# Altium schematic symbol library CLAP.SCHLIB: 280 symbols
Pins are listed as number, name and electrical type; pins without a type are passive.

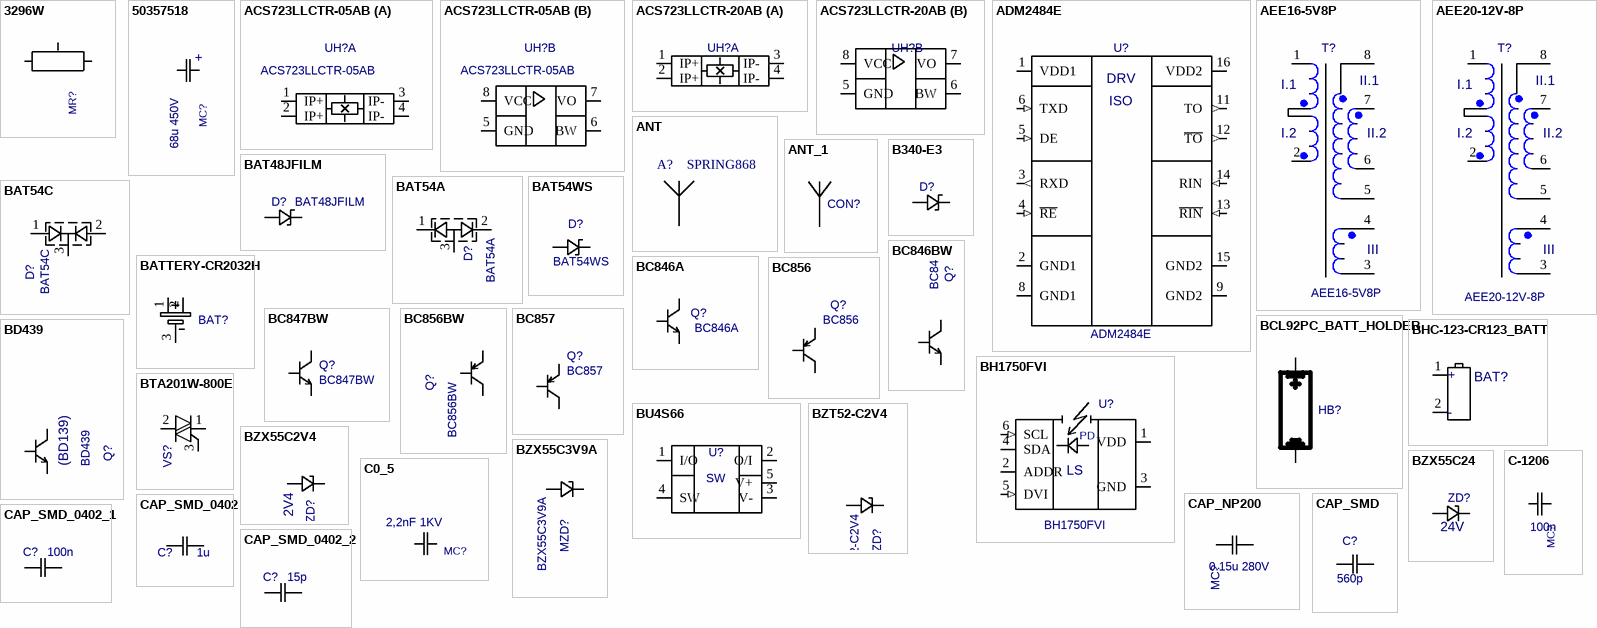
[diagram p0: symbols 3296W to CAP_SMD_0402_2]

## 3296W
designator MR?  (value not drawn)
Value: 2 kOm
footprint 3296W
pins: 1, 2, 3

## 50357518
designator MC?  value 68u 450V  (hidden comment: 50357518)
footprint 50357518
pins: 1, 2
text: +

## ACS723LLCTR-05AB
designator UH?
Value: *
footprint SO8
part A pins: 1 IP+, 2 IP+, 3 IP-, 4 IP-
part B pins: 5 GND, 6 BW, 7 VO, 8 VCC

## ACS723LLCTR-20AB
designator UH?  (value not drawn)
Value: *
footprint SO8
part A pins: 1 IP+, 2 IP+, 3 IP-, 4 IP-
part B pins: 5 GND, 6 BW, 7 VO, 8 VCC

## ADM2484E
designator U?
Value: *
footprint SOIC-W-16
pins: 1 VDD1 (power), 2 GND1 (power), 3 RXD (out), 4 ~{RE} (in), 5 DE (in), 6 TXD (in), 7 hidden, 8 GND1 (power), 9 GND2 (power), 10 hidden, 11 TO (out), 12 ~{TO} (out), 13 ~{RIN} (in), 14 RIN (in), 15 GND2 (power), 16 VDD2 (power)
text: DRV; ISO

## AEE16-5V8P
designator T?
footprint TRANS_HOR_20
pins: 1, 2, 3, 4, 5, 6, 7, 8
text: I.1; II.1; I.2; II.2; III

## AEE20-12V-8P
designator T?
footprint TRANS_HOR_4
pins: 1, 2, 3, 4, 5, 6, 7, 8
text: I.1; II.1; I.2; II.2; III

## ANT
designator A?, comment SPRING868
Вид: Антена; Позиційне позначення на платі: A?; Примітки: Пряма; Корпус: Spring868; Номінал: Spring868; Тип: Spring868
footprint ANT_H868_V (helical 868 MHz antenna)
pins: 1

## ANT_1
designator CON?, comment ANT  (value not drawn)
Value: *
footprint ANT
pins: 1, 2 hidden, 3 hidden, 4 hidden, 5 hidden

## B340-E3
designator D?  (value not drawn)
Value: *
footprint DO-214AC
pins: 1, 2

## BAT48JFILM
designator D?
Value: *
footprint SOD323
pins: 1, 2

## BAT54A
designator D?
Value: *
footprint SOT23
pins: 1 A, 2 K, 3 CMN

## BAT54C
designator D?
2 Shottky Diodes. CMN Cathode; Value: *
footprint SOT23
pins: 1 A, 2 K, 3 CMN

## BAT54WS
designator D?
Value: *
footprint SOD323
pins: 1, 2

## BATTERY-CR2032H
designator BAT?  (value not drawn)
Value: *
footprint CR2032H_BATTERY
pins: 1 +, 2 +, 3 -

## BC846A
designator Q?
Value: *
footprint SOT23
pins: 1 B, 2 E, 3 C

## BC846BW
designator Q?
Value: *
footprint SOT323
pins: 1 B, 2 E, 3 C

## BC847BW
designator Q?
Value: *
footprint SOT23
pins: 1 B, 2 E, 3 C

## BC856
designator Q?
Value: *
footprint SOT23
pins: 1 B, 2 E, 3 C

## BC856BW
designator Q?
Value: *
footprint SOT23
pins: 1 B, 2 E, 3 C

## BC857
designator Q?
Value: *
footprint SOT23
pins: 1 B, 2 E, 3 C

## BCL92PC_BATT_HOLDER
designator HB?  (value not drawn)
Value: *
footprint BAT_BCL92PC
footprint BAT_BCL92PC_U_3D
pins: 1, 2 hidden, 3 hidden, 4

## BD439
designator Q?  value (BD139)
footprint TO225 VH
pins: 1 E, 2 K, 3 B

## BH1750FVI
designator U?
Value: *
footprint BH1750FVI
pins: 1 VDD (power), 2 ADDR, 3 GND (power), 4 SDA (hiz), 5 DVI (in), 6 SCL (in), 7 hidden
text: PD; LS

## BHC-123-CR123_BATT
designator BAT?  (value not drawn)
Value: *
footprint BATTERY_HOLDER_BHC-CR123
pins: 1, 2, 3 hidden, 4 hidden, 5 hidden
text: +; -

## BTA201W-800E
designator VS?  (value not drawn)
Value: *
footprint SOT223
pins: 1, 2, 3, 4 hidden

## BU4S66
designator U?  (value not drawn)
Value: *
footprint SMP5
pins: 1 I/O, 2 O/I, 3 V-, 4 SW, 5 V+

## BZT52-C2V4
designator ZD?
Value: *
footprint SOD323
pins: 1, 2

## BZX55C2V4
designator ZD?  value 2V4  (hidden comment: BZX55C2V4)
Zener Diode 2.4V
footprint DO-35
pins: 1, 2

## BZX55C3V9A
designator MZD?
Value: 3V9
footprint SOD80
pins: A, K

## BZX55C24
designator ZD?  value 24V  (hidden comment: BZX55C24)
Zener Diode 24V
footprint DO-35
pins: 1, 2

## C0_5
designator MC?  value 2,2nF 1KV  (hidden comment: C0_5)
footprint C0_5
pins: 1, 2

## C-1206
designator MC?  value 100n  (hidden comment: C-1206)
footprint C-1206
pins: 1, 2

## CAP_NP200
designator MC?  value 0.15u 280V  (hidden comment: CAP_NP200)
footprint CAP200
pins: 1, 2

## CAP_SMD
designator C?  value 560p  (hidden comment: CAP_SMD)
footprint C0805
pins: 1 A, 2 B

## CAP_SMD_0402
designator C?  value 1u  (hidden comment: CAP_SMD_0402)
footprint C0402
footprint C-0402 (Chip Capacitor, 2-Leads, Body 1,00x0,50mm, IPC Medium Density)
pins: 1 A, 2 B

## CAP_SMD_0402_1
designator C?, comment value 100n  (hidden comment: CAP_SMD_0402)
footprint C0402
footprint C-0402 (Chip Capacitor, 2-Leads, Body 1,00x0,50mm, IPC Medium Density)
pins: 1 A, 2 B

## CAP_SMD_0402_2
designator C?, comment value 15p  (hidden comment: CAP_SMD_0402)
footprint C0402
footprint C-0402 (Chip Capacitor, 2-Leads, Body 1,00x0,50mm, IPC Medium Density)
pins: 1 A, 2 B

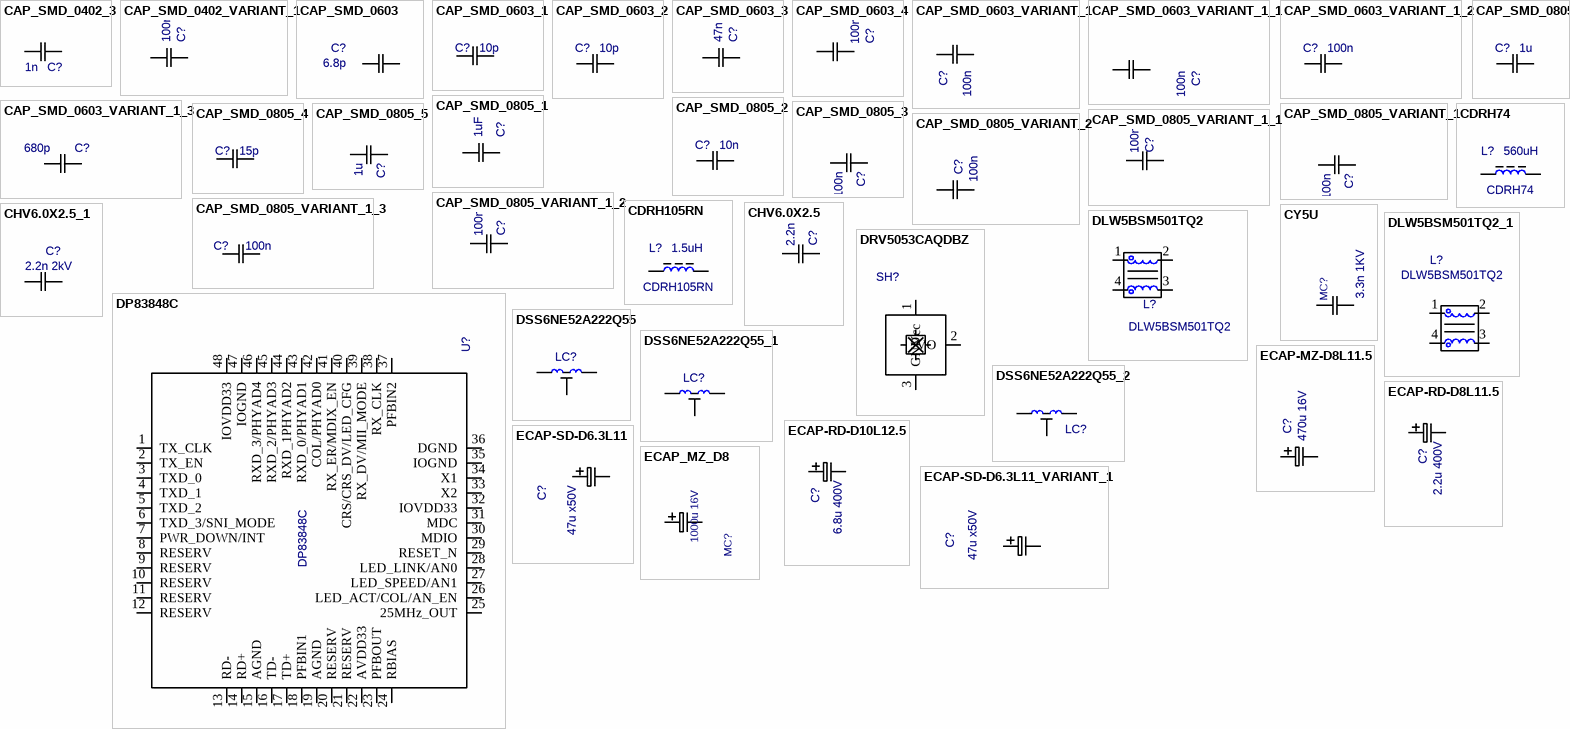
[diagram p1: symbols CAP_SMD_0402_3 to ECAP_MZ_D8]

## CAP_SMD_0402_3
designator C?, comment value 1n  (hidden comment: CAP_SMD_0402)
footprint C0402
footprint C-0402 (Chip Capacitor, 2-Leads, Body 1,00x0,50mm, IPC Medium Density)
pins: 1 A, 2 B

## CAP_SMD_0402_VARIANT_1
designator C?, comment value 100n  (hidden comment: CAP_SMD_0402)
CAP_SMD_0402_VARIANT_1
footprint C0402
footprint C-0402 (Chip Capacitor, 2-Leads, Body 1,00x0,50mm, IPC Medium Density)
pins: 1 A, 2 B

## CAP_SMD_0603
designator C?  value 6.8p  (hidden comment: CAP_SMD_0603)
footprint C0603
pins: 1 A, 2 B

## CAP_SMD_0603_1
designator C?, comment value 10p  (hidden comment: CAP_SMD_0603)
footprint C0603
pins: 1 A, 2 B

## CAP_SMD_0603_2
designator C?, comment value 10p  (hidden comment: CAP_SMD_0603)
footprint C0603
pins: 1 A, 2 B

## CAP_SMD_0603_3
designator C?, comment value 47n  (hidden comment: CAP_SMD_0603)
footprint C0603
pins: 1 A, 2 B

## CAP_SMD_0603_4
designator C?, comment value 100n  (hidden comment: CAP_SMD_0603)
footprint C0603
pins: 1 A, 2 B

## CAP_SMD_0603_VARIANT_1
designator C?, comment value 100n  (hidden comment: CAP_SMD_0603)
CAP_SMD_0603_VARIANT_1
footprint C0603
pins: 1 A, 2 B

## CAP_SMD_0603_VARIANT_1_1
designator C?, comment value 100n  (hidden comment: CAP_SMD_0603)
CAP_SMD_0603_VARIANT_1
footprint C0603
pins: 1 A, 2 B

## CAP_SMD_0603_VARIANT_1_2
designator C?, comment value 100n  (hidden comment: CAP_SMD_0603)
CAP_SMD_0603_VARIANT_1
footprint C0603
pins: 1 A, 2 B

## CAP_SMD_0603_VARIANT_1_3
designator C?, comment value 680p  (hidden comment: CAP_SMD_0603)
CAP_SMD_0603_VARIANT_1
footprint C0603
pins: 1 A, 2 B

## CAP_SMD_0805
designator C?  value 1u  (hidden comment: CAP_SMD_0805)
footprint C0805
pins: 1 A, 2 B

## CAP_SMD_0805_1
designator C?, comment value 1uF  (hidden comment: CAP_SMD_0805)
footprint C0805
pins: 1 A, 2 B

## CAP_SMD_0805_2
designator C?, comment value 10n  (hidden comment: CAP_SMD_0805)
footprint C0805
pins: 1 A, 2 B

## CAP_SMD_0805_3
designator C?, comment value 100n  (hidden comment: CAP_SMD_0805)
footprint C0805
pins: 1 A, 2 B

## CAP_SMD_0805_4
designator C?, comment value 15p  (hidden comment: CAP_SMD_0805)
footprint C0805
pins: 1 A, 2 B

## CAP_SMD_0805_5
designator C?, comment value 1u  (hidden comment: CAP_SMD_0805)
footprint C0805
pins: 1 A, 2 B

## CAP_SMD_0805_VARIANT_1
designator C?, comment value 100n  (hidden comment: CAP_SMD_0805)
CAP_SMD_0805_VARIANT_1
footprint C0805
pins: 1 A, 2 B

## CAP_SMD_0805_VARIANT_1_1
designator C?, comment value 100n  (hidden comment: CAP_SMD_0805)
CAP_SMD_0805_VARIANT_1
footprint C0805
pins: 1 A, 2 B

## CAP_SMD_0805_VARIANT_1_2
designator C?, comment value 100n  (hidden comment: CAP_SMD_0805)
CAP_SMD_0805_VARIANT_1
footprint C0805
pins: 1 A, 2 B

## CAP_SMD_0805_VARIANT_1_3
designator C?, comment value 100n  (hidden comment: CAP_SMD_0805)
CAP_SMD_0805_VARIANT_1
footprint C0805
pins: 1 A, 2 B

## CAP_SMD_0805_VARIANT_2
designator C?, comment value 100n  (hidden comment: CAP_SMD_0805)
CAP_SMD_0805_VARIANT_2
footprint C0805
pins: 1 A, 2 B

## CDRH74
designator L?  value 560uH
footprint CDRH74_INDUCTOR
pins: 1, 2

## CDRH105RN
designator L?  value 1.5uH
SMD Power Inductor. Sumida
footprint CDRH105R_INDUCTOR
pins: 1, 2

## CHV6.0X2.5
designator C?  value 2.2n 2kV  (hidden comment: CHV6.0X2.5)
footprint CDIP2D20L210W100
pins: 1, 2

## CHV6.0X2.5_1
designator C?, comment value 2.2n 2kV  (hidden comment: CHV6.0X2.5)
footprint CDIP2D20L210W100
pins: 1, 2

## CY5U
designator MC?  value 3.3n 1KV  (hidden comment: CY5U)
footprint CY5U
pins: 1, 2

## DLW5BSM501TQ2
designator L?
Value: *
footprint DLW5BS_CHOKE_COIL
pins: 1, 2, 3, 4

## DLW5BSM501TQ2_1
designator L?, comment DLW5BSM501TQ2
Value: *
footprint DLW5BS_CHOKE_COIL
pins: 1, 2, 3, 4

## DP83848C
designator U?
Value: *
footprint LQFP48(7_7)
pins: 1 TX_CLK, 2 TX_EN, 3 TXD_0, 4 TXD_1, 5 TXD_2, 6 TXD_3/SNI_MODE, 7 PWR_DOWN/INT, 8 RESERV, 9 RESERV, 10 RESERV, 11 RESERV, 12 RESERV, 13 RD-, 14 RD+, 15 AGND, 16 TD-, 17 TD+, 18 PFBIN1, 19 AGND, 20 RESERV, 21 RESERV, 22 AVDD33, 23 PFBOUT, 24 RBIAS, 25 25MHz_OUT, 26 LED_ACT/COL/AN_EN, 27 LED_SPEED/AN1, 28 LED_LINK/AN0, 29 RESET_N, 30 MDIO, 31 MDC, 32 IOVDD33, 33 X2, 34 X1, 35 IOGND, 36 DGND, 37 PFBIN2, 38 RX_CLK, 39 RX_DV/MII_MODE, 40 CRS/CRS_DV/LED_CFG, 41 RX_ER/MDIX_EN, 42 COL/PHYAD0, 43 RXD_0/PHYAD1, 44 RXD_1PHYAD2, 45 RXD_2/PHYAD3, 46 RXD_3/PHYAD4, 47 IOGND, 48 IOVDD33

## DRV5053CAQDBZ
designator SH?  (value not drawn)
Value: *
footprint SOT23-DBZ
pins: 1 Vcc, 2 VO, 3 GND

## DSS6NE52A222Q55
designator LC?  (value not drawn)
Value: *
footprint EMIFIL_DSS6
pins: 1, 2, 3

## DSS6NE52A222Q55_1
designator LC?, comment DSS6NE52A222Q55  (value not drawn)
EMI Filter; Value: *
footprint EMIFIL_DSS6
pins: 1, 2, 3

## DSS6NE52A222Q55_2
designator LC?, comment DSS6NE52A222Q55  (value not drawn)
Value: *
footprint EMIFIL_DSS6
pins: 1, 2, 3

## ECAP-MZ-D8L11.5
designator C?  value 470u 16V  (hidden comment: ECAP-MZ-D8L11.5)
Jamicon MZ-Series Capasitor
footprint ECAP-MZ-D8L11.5
pins: 1, 2

## ECAP-RD-D8L11.5
designator C?  value 2.2u 400V  (hidden comment: ECAP-RD-D8L11.5)
footprint ECAP-SD-D8L11.5
pins: 1, 2

## ECAP-RD-D10L12.5
designator C?  value 6.8u 400V  (hidden comment: ECAP-RD-D10L12.5)
footprint ECAP-SD-D10L12.5
pins: 1, 2

## ECAP-SD-D6.3L11
designator C?  value 47u x50V  (hidden comment: ECAP-SD-D6.3L11)
footprint ECAP-SD-D6.3L11
pins: 1, 2

## ECAP-SD-D6.3L11_VARIANT_1
designator C?, comment value 47u x50V  (hidden comment: ECAP-SD-D6.3L11)
ECAP-SD-D6.3L11_VARIANT_1
footprint ECAP-SD-D6.3L11
pins: 1, 2

## ECAP_MZ_D8
designator MC?  value 1000u 16V  (hidden comment: ECAP_MZ_D8)
footprint C_MZ-DIP8X20
pins: 1, 2

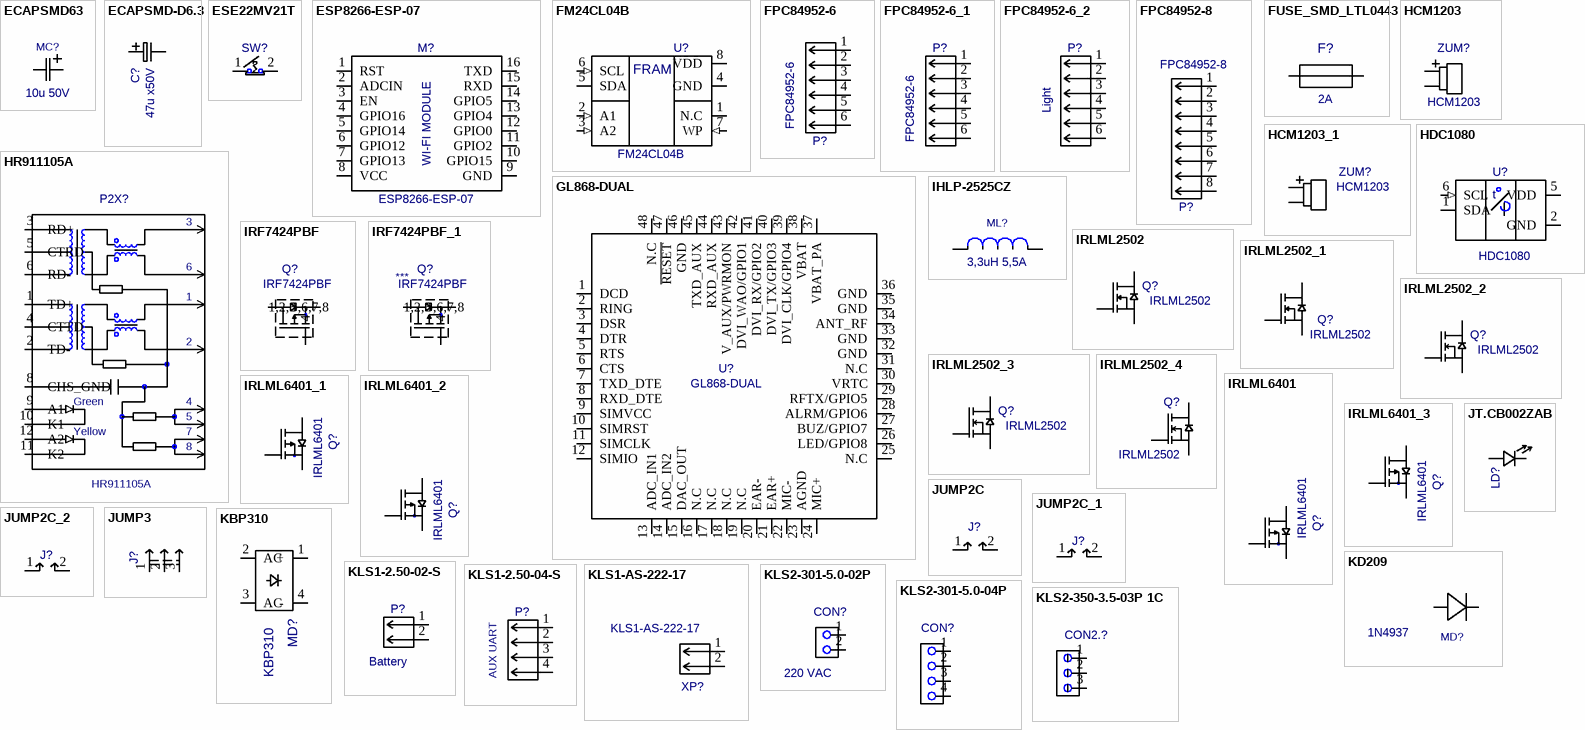
[diagram p2: symbols ECAPSMD63 to KLS2-350-3.5-03P 1C]

## ECAPSMD63
designator MC?  value 10u 50V  (hidden comment: ECAPSMD63)
footprint ECAPSMD63
pins: 1, 2

## ECAPSMD-D6.3
designator C?  value 47u x50V  (hidden comment: ECAPSMD-D6.3)
footprint SMDCAP-D6.3
pins: 1, 2

## ESE22MV21T
designator SW?  (value not drawn)
{Description}; Value: *
footprint ESE22MV21T
pins: 1, 2

## ESP8266-ESP-07
designator M?
WI-FI MODULE; Value: *
footprint MOD_ESP8166_ESP-07
pins: 1 RST, 2 ADCIN, 3 EN, 4 GPIO16, 5 GPIO14, 6 GPIO12, 7 GPIO13, 8 VCC, 9 GND, 10 GPIO15, 11 GPIO2, 12 GPIO0, 13 GPIO4, 14 GPIO5, 15 RXD, 16 TXD

## FM24CL04B
designator U?
Value: *
footprint SOIC8-150
pins: 1 N.C, 2 A1 (in), 3 A2 (in), 4 GND (power), 5 SDA (io), 6 SCL (in), 7 WP (in), 8 VDD (power)
text: FRAM

## FPC84952-6
designator P?
Value: *
footprint FPC84952-6_SMT_BOTT
pins: 1, 2, 3, 4, 5, 6, 7 hidden, 8 hidden

## FPC84952-6_1
designator P?, comment FPC84952-6
Value: *
footprint FPC84952-6_SMT_BOTT
pins: 1, 2, 3, 4, 5, 6, 7 hidden, 8 hidden

## FPC84952-6_2
designator P?, comment value Light  (hidden comment: FPC84952-6)
footprint FPC84952-6_SMT_BOTT
pins: 1, 2, 3, 4, 5, 6, 7 hidden, 8 hidden

## FPC84952-8
designator P?
Value: *
footprint FPC_CON_SMT_8
pins: 1, 2, 3, 4, 5, 6, 7, 8, 9 hidden, 10 hidden

## FUSE_SMD_LTL0443
designator F?  value 2A  (hidden comment: FUSE_SMD_LTL0443)
footprint FUSE_LTL0443
pins: 1, 2

## GL868-DUAL
designator U?
Value: *
footprint PQFP48
pins: 1 DCD, 2 RING, 3 DSR, 4 DTR, 5 RTS, 6 CTS, 7 TXD_DTE, 8 RXD_DTE, 9 SIMVCC, 10 SIMRST, 11 SIMCLK, 12 SIMIO, 13 ADC_IN1, 14 ADC_IN2, 15 DAC_OUT, 16 N.C, 17 N.C, 18 N.C, 19 N.C, 20 EAR-, 21 EAR+, 22 MIC-, 23 AGND, 24 MIC+, 25 N.C, 26 LED/GPIO8, 27 BUZ/GPIO7, 28 ALRM/GPIO6, 29 RFTX/GPIO5, 30 VRTC, 31 N.C, 32 GND, 33 GND, 34 ANT_RF, 35 GND, 36 GND, 37 VBAT_PA, 38 VBAT, 39 DVI_CLK/GPIO4, 40 DVI_TX/GPIO3, 41 DVI_RX/GPIO2, 42 DVI_WAO/GPIO1, 43 V_AUX/PWRMON, 44 RXD_AUX, 45 TXD_AUX, 46 GND, 47 ~{RESET}, 48 N.C

## HCM1203
designator ZUM?
Value: *
footprint BUZZER_3D
pins: 1, 2

## HCM1203_1
designator ZUM?, comment HCM1203
Value: *
footprint HCM1206X_ZUMM
pins: 1, 2

## HDC1080
designator U?
Sensor humidity, temperature; Value: *
footprint WSON_6
pins: 1 SDA (hiz), 2 GND (power), 3 N.C hidden, 4 N.C hidden, 5 VDD (power), 6 SCL (in), 7 hidden
text: t

## HR911105A
designator P2X?
Value: *
footprint HR911105A
pins: 1 TD+, 2 TD-, 3 RD+, 4 CTTD, 5 CTRD, 6 RD-, 7 hidden, 8 CHS_GND, 9 A1, 10 K1, 11 K2, 12 A2, 13 hidden, 14 hidden, 15 hidden, 16 hidden
text: Green; Yellow

## IHLP-2525CZ
designator ML?  value 3,3uH 5,5A  (hidden comment: IHLP-2525CZ)
footprint IHLP-2525CZ
pins: 1, 2

## IRF7424PBF
designator Q?
Value: *
footprint SO8
pins: 1 1,2,3, 2 hidden, 3 hidden, 4, 5 5,6,7,8, 6 hidden, 7 hidden, 8 hidden

## IRF7424PBF_1
designator Q?, comment IRF7424PBF  value ***
footprint SO8
pins: 1 1,2,3, 2 hidden, 3 hidden, 4, 5 5,6,7,8, 6 hidden, 7 hidden, 8 hidden

## IRLML2502
designator Q?
Value: *
footprint MICRO3
footprint SOT23 (SOT23, 3-Leads, Body 2,90x2,45mm, Pitch 0,95mm, IPC Medium Density)
pins: 1 G, 2 S, 3 D

## IRLML2502_1
designator Q?, comment IRLML2502
Value: *
footprint MICRO3
pins: 1 G, 2 S, 3 D

## IRLML2502_2
designator Q?, comment IRLML2502
Value: *
footprint MICRO3
pins: 1 G, 2 S, 3 D

## IRLML2502_3
designator Q?, comment IRLML2502
Value: *
footprint MICRO3
pins: 1 G, 2 S, 3 D

## IRLML2502_4
designator Q?, comment IRLML2502
Value: *
footprint MICRO3
pins: 1 G, 2 S, 3 D

## IRLML6401
designator Q?
Value: *
footprint MICRO3
footprint SOT23 (SOT23, 3-Leads, Body 2,90x2,45mm, Pitch 0,95mm, IPC Medium Density)
pins: 1 G, 2 S, 3 D

## IRLML6401_1
designator Q?, comment IRLML6401
Value: *
footprint MICRO3
pins: 1 G, 2 S, 3 D

## IRLML6401_2
designator Q?, comment IRLML6401
Value: *
footprint MICRO3
pins: 1 G, 2 S, 3 D

## IRLML6401_3
designator Q?, comment IRLML6401
Value: *
footprint MICRO3
pins: 1 G, 2 S, 3 D

## JT.CB002ZAB
designator LD?  (value not drawn)
Value: *
footprint LED_SMD_1210
pins: A, K

## JUMP2C
designator J?  (value not drawn)
Value: *
footprint JMP2
pins: 1, 2

## JUMP2C_1
designator J?, comment JUMP2C  (value not drawn)
Value: *
footprint JMP2
pins: 1, 2

## JUMP2C_2
designator J?, comment JUMP2C  (value not drawn)
Value: *
footprint JMP2
pins: 1, 2

## JUMP3
designator J?  (value not drawn)
footprint JMP3
pins: 1, 2, 3

## KBP310
designator MD?
Value: *
footprint KBP
pins: 1 +, 2 AC, 3 AC, 4 -

## KD209
designator MD?  value 1N4937  (hidden comment: KD209)
footprint KD209
pins: 1 A, 2 C

## KLS1-2.50-02-S
designator P?  value Battery  (hidden comment: KLS1-2.50-02-S)
footprint KLS1-2.50-02-S
pins: 1, 2

## KLS1-2.50-04-S
designator P?  value AUX UART  (hidden comment: KLS1-2.50-04-S)
footprint KLS1-2.50-04-S
pins: 1, 2, 3, 4

## KLS1-AS-222-17
designator XP?
Value: *
footprint KLS1-AS222-17
pins: 1, 2, 3 hidden, 4 hidden

## KLS2-301-5.0-02P
designator CON?  value 220 VAC  (hidden comment: KLS2-301-5.0-02P)
footprint KLS2-301-5.0-02P
pins: 1, 2

## KLS2-301-5.0-04P
designator CON?  (value not drawn)
Value: *
footprint KLS2-301-5.0-04P
pins: 1, 2, 3, 4

## KLS2-350-3.5-03P 1C
designator CON2.?  (value not drawn)
Value: *
footprint KLS2-350-3.5-03PXS
pins: 1, 2, 3

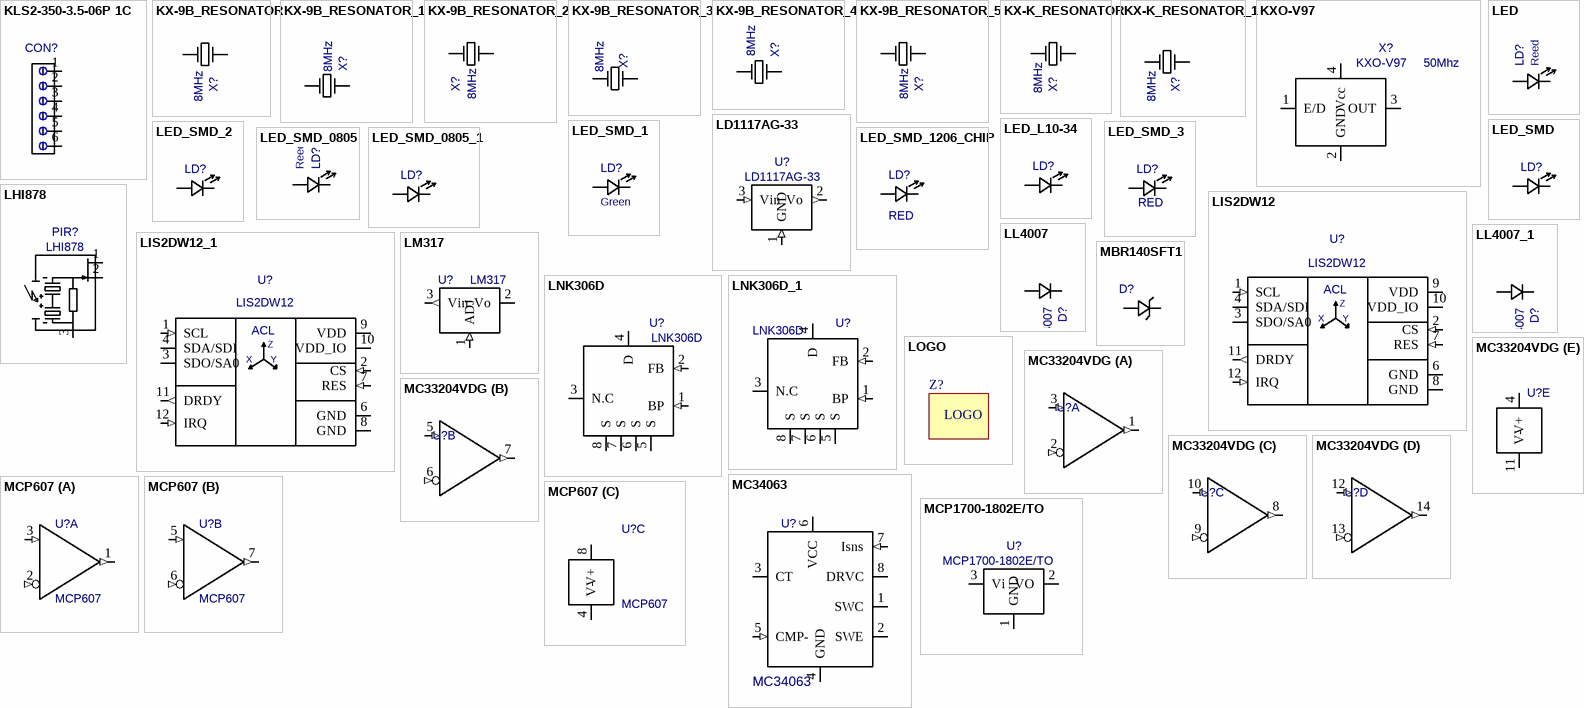
[diagram p3: symbols KLS2-350-3.5-06P 1C to MCP1700-1802E/TO]

## KLS2-350-3.5-06P 1C
designator CON?  (value not drawn)
Value: *
footprint KLS2-350-3.5-06PXS
pins: 1, 2, 3, 4, 5, 6

## KX-9B_RESONATOR
designator X?  value 8MHz  (hidden comment: KX-9B_RESONATOR)
Crystal
footprint KX-9B_CRYSTAL
footprint KX-9B (Filter, Chip; 5.00 mm L X 3.20 mm W X 1.10 mm H body)
pins: 1, 2

## KX-9B_RESONATOR_1
designator X?, comment value 8MHz  (hidden comment: KX-9B_RESONATOR)
Crystal
footprint KX-9B_CRYSTAL
pins: 1, 2

## KX-9B_RESONATOR_2
designator X?, comment value 8MHz  (hidden comment: KX-9B_RESONATOR)
Crystal
footprint KX-9B_CRYSTAL
pins: 1, 2

## KX-9B_RESONATOR_3
designator X?, comment value 8MHz  (hidden comment: KX-9B_RESONATOR)
Crystal
footprint KX-9B_CRYSTAL
pins: 1, 2

## KX-9B_RESONATOR_4
designator X?, comment value 8MHz  (hidden comment: KX-9B_RESONATOR)
Crystal
footprint KX-9B_CRYSTAL
pins: 1, 2

## KX-9B_RESONATOR_5
designator X?, comment value 8MHz  (hidden comment: KX-9B_RESONATOR)
Crystal
footprint KX-9B_CRYSTAL
pins: 1, 2

## KX-K_RESONATOR
designator X?  value 8MHz  (hidden comment: KX-K_RESONATOR)
Crystal
footprint CRISTAL_SMD
pins: 1, 2

## KX-K_RESONATOR_1
designator X?, comment value 8MHz  (hidden comment: KX-K_RESONATOR)
Crystal
footprint KX-K_RESONATOR_SMD
pins: 1, 2

## KXO-V97
designator X?  value 50Mhz
footprint KXO-V97
pins: 1 E/D, 2 GND, 3 OUT, 4 Vcc

## LD1117AG-33
designator U?
Value: *
footprint SOT223
pins: 1 GND (in), 2 Vo (out), 3 Vin (in), 4 (out) hidden

## LED
designator LD?  value Reed  (hidden comment: LED)
footprint LED3
pins: A, K

## LED_L10-34
designator LD?  (value not drawn)
Value: *
footprint LED_L10-34
pins: A, K

## LED_SMD
designator LD?  (value not drawn)
Value: *
footprint LED_SMD
pins: A, K

## LED_SMD_1
designator LD?, comment value Green  (hidden comment: LED_SMD)
footprint LED_SMD
pins: A, K

## LED_SMD_2
designator LD?, comment LED_SMD  (value not drawn)
Value: *
footprint LED_SMD
pins: A, K

## LED_SMD_3
designator LD?, comment value RED  (hidden comment: LED_SMD)
footprint LED_SMD
pins: A, K

## LED_SMD_0805
designator LD?  value Reed  (hidden comment: LED_SMD_0805)
footprint LED_SMD_0805
pins: A, K

## LED_SMD_0805_1
designator LD?, comment LED_SMD_0805  (value not drawn)
Value: *
footprint LED_SMD_0805
pins: A, K

## LED_SMD_1206_CHIP
designator LD?  value RED  (hidden comment: LED_SMD_1206_CHIP)
Led SMD RED. 150-300mcd
footprint LED_SMD_1206_CHIP
footprint LEDC3216R (LED, Chip; 3.20 mm L X 1.60 mm W X 1.10 mm H body)
pins: A, K

## LHI878
designator PIR?
Value: *
footprint TO-5
pins: 1, 2, 3

## LIS2DW12
designator U?
Value: *
footprint LGA-12
footprint LGA-12 (2x2 mm accelerometer)
pins: 1 SCL (in), 2 CS (in), 3 SDO/SA0 (io), 4 SDA/SDI (io), 5 hidden, 6 GND (power), 7 RES (in), 8 GND (power), 9 VDD (power), 10 VDD_IO (power), 11 DRDY (out), 12 IRQ (in)
text: ACL; Z; X; Y

## LIS2DW12_1
designator U?, comment LIS2DW12
Value: *
footprint LGA-12
pins: 1 SCL (in), 2 CS (in), 3 SDO/SA0 (io), 4 SDA/SDI (io), 5 hidden, 6 GND (power), 7 RES (in), 8 GND (power), 9 VDD (power), 10 VDD_IO (power), 11 DRDY (out), 12 IRQ (in)
text: ACL; Z; X; Y

## LL4007
designator D?
Value: *
footprint DO-213AB
pins: 1, 2

## LL4007_1
designator D?, comment LL4007
Value: *
footprint DO-213AB
pins: 1, 2

## LM317
designator U?
Value: *
footprint SOT-223
pins: 1 ADJ (in), 2 Vo, 3 Vin (out), 4 hidden

## LNK306D
designator U?
Value: *
footprint SO8
pins: 1 BP (in), 2 FB (in), 3 N.C, 4 D (power), 5 S (power), 6 S (power), 7 S (power), 8 S (power)

## LNK306D_1
designator U?, comment LNK306D
Value: *
footprint SO8
pins: 1 BP (in), 2 FB (in), 3 N.C, 4 D (power), 5 S (power), 6 S (power), 7 S (power), 8 S (power)

## LOGO
designator Z?  (value not drawn)  (no BOM)
Позиційне позначення на платі: Z?; Тип: LOGO; Номінал: LOGO
footprint CLAP_LOGO
footprint CLAP_LOGO_SMALL

## MBR140SFT1
designator D?  (value not drawn)
Value: *
footprint SOD-123LF
pins: 1, 2

## MC33204VDG
designator U?  (value not drawn)
Value: ***
footprint SO14
part A pins: 1 (out), 2 (in), 3 (in)
part B pins: 5 (in), 6 (in), 7 (out)
part C pins: 8 (out), 9 (in), 10 (in)
part D pins: 12 (in), 13 (in), 14 (out)
part E pins: 4 V+ (power), 11 V- (power)

## MC34063
designator U?
Value: *
footprint SO8
pins: 1 SWC, 2 SWE, 3 CT, 4 GND (power), 5 CMP- (in), 6 VCC (power), 7 Isns (in), 8 DRVC

## MCP607
designator U?
Value: *
footprint SO8:TSSOP8
part A pins: 1 (out), 2 (in), 3 (in)
part B pins: 5 (in), 6 (in), 7 (out)
part C pins: 4 V-, 8 V+

## MCP1700-1802E/TO
designator U?
Value: *
footprint SOT23A
pins: 1 GND, 2 VO, 3 Vi

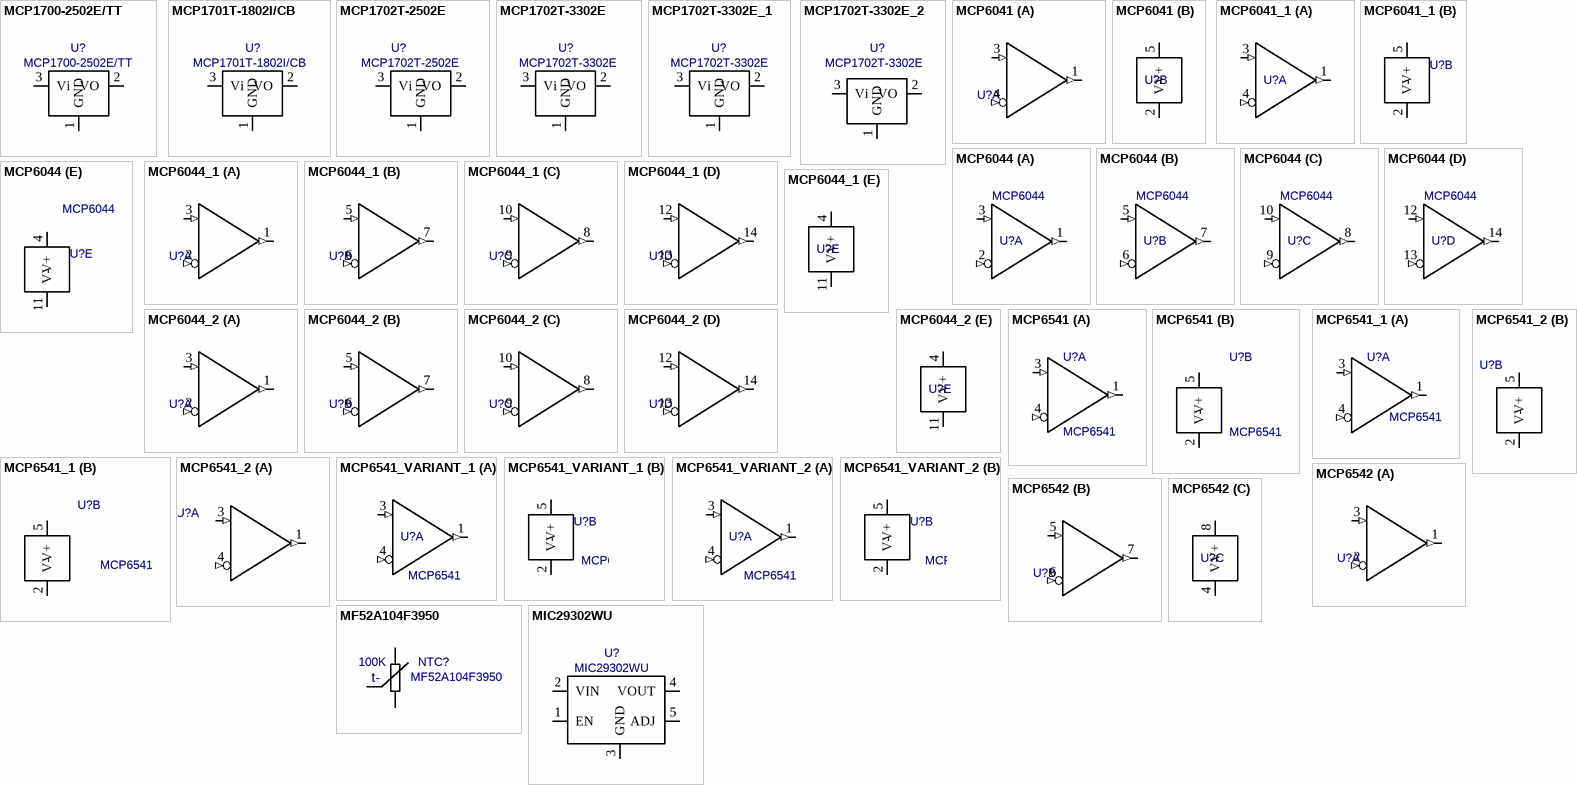
[diagram p4: symbols MCP1700-2502E/TT to MIC29302WU]

## MCP1700-2502E/TT
designator U?
Value: *
footprint SOT23
pins: 1 GND, 2 VO, 3 Vi

## MCP1701T-1802I/CB
designator U?
Value: *
footprint SOT23A
pins: 1 GND, 2 VO, 3 Vi

## MCP1702T-2502E
designator U?
Value: *
footprint SOT23A
pins: 1 GND, 2 VO, 3 Vi

## MCP1702T-3302E
designator U?
Value: *
footprint SOT23A
pins: 1 GND, 2 VO, 3 Vi

## MCP1702T-3302E_1
designator U?, comment MCP1702T-3302E
Value: *
footprint SOT23A
pins: 1 GND, 2 VO, 3 Vi

## MCP1702T-3302E_2
designator U?, comment MCP1702T-3302E
Value: *
footprint SOT23A
pins: 1 GND, 2 VO, 3 Vi

## MCP6041
designator U?  (value not drawn)
Value: *
footprint SOT23-5
part A pins: 1 (out), 3 (in), 4 (in)
part B pins: 2 V- (power), 5 V+ (power)

## MCP6041_1
designator U?, comment MCP6041  (value not drawn)
Value: *
footprint SOT23-5
part A pins: 1 (out), 3 (in), 4 (in)
part B pins: 2 V- (power), 5 V+ (power)

## MCP6044
designator U?
Quad Operational Amplifier; Value: *
footprint SO14:TSSOP14
part A pins: 1 (out), 2 (in), 3 (in)
part B pins: 5 (in), 6 (in), 7 (out)
part C pins: 8 (out), 9 (in), 10 (in)
part D pins: 12 (in), 13 (in), 14 (out)
part E pins: 4 V+ (power), 11 V- (power)

## MCP6044_1
designator U?, comment MCP6044  (value not drawn)
Value: *
footprint SO14:TSSOP14
part A pins: 1 (out), 2 (in), 3 (in)
part B pins: 5 (in), 6 (in), 7 (out)
part C pins: 8 (out), 9 (in), 10 (in)
part D pins: 12 (in), 13 (in), 14 (out)
part E pins: 4 V+ (power), 11 V- (power)

## MCP6044_2
designator U?, comment MCP6044  (value not drawn)
Value: *
footprint SO14:TSSOP14
part A pins: 1 (out), 2 (in), 3 (in)
part B pins: 5 (in), 6 (in), 7 (out)
part C pins: 8 (out), 9 (in), 10 (in)
part D pins: 12 (in), 13 (in), 14 (out)
part E pins: 4 V+ (power), 11 V- (power)

## MCP6541
designator U?
Value: *
footprint SOT23-5
part A pins: 1 (out), 3 (in), 4 (in)
part B pins: 2 V- (power), 5 V+ (power)

## MCP6541_1
designator U?, comment MCP6541
Value: *
footprint SOT23-5
part A pins: 1 (out), 3 (in), 4 (in)
part B pins: 2 V- (power), 5 V+ (power)

## MCP6541_2
designator U?, comment MCP6541  (value not drawn)
Value: *
footprint SOT23-5
part A pins: 1 (out), 3 (in), 4 (in)
part B pins: 2 V- (power), 5 V+ (power)

## MCP6541_VARIANT_1
designator U?, comment MCP6541
MCP6541_VARIANT_1; Value: *
footprint SOT23-5
part A pins: 1 (out), 3 (in), 4 (in)
part B pins: 2 V- (power), 5 V+ (power)

## MCP6541_VARIANT_2
designator U?, comment MCP6541
MCP6541_VARIANT_2; Value: *
footprint SOT23-5
part A pins: 1 (out), 3 (in), 4 (in)
part B pins: 2 V- (power), 5 V+ (power)

## MCP6542
designator U?  (value not drawn)
Value: *
footprint SO8-MSOP8
part A pins: 1 (out), 2 (in), 3 (in)
part B pins: 5 (in), 6 (in), 7 (out)
part C pins: 4 V-, 8 V+

## MF52A104F3950
designator NTC?  value 100K
footprint DIP2-EX25Y25D15A
pins: 1, 2
text: t-

## MIC29302WU
designator U?
Value: *
footprint TO263-5M
pins: 1 EN, 2 VIN, 3 GND, 4 VOUT, 5 ADJ, 6 hidden

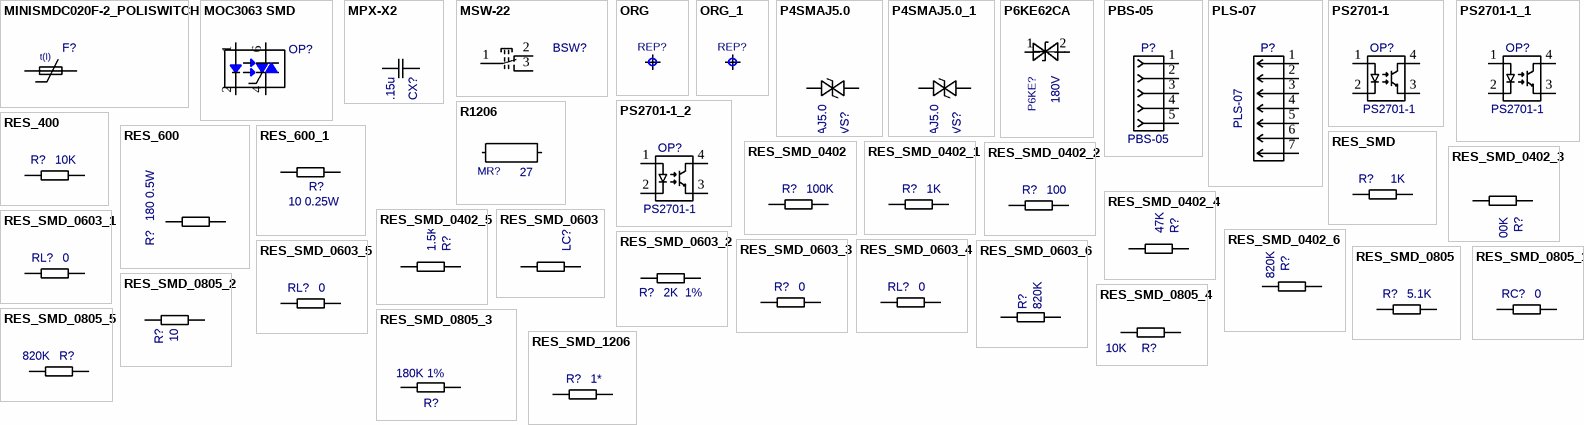
[diagram p5: symbols MINISMDC020F-2_POLISWITCH to RES_SMD_1206]

## MINISMDC020F-2_POLISWITCH
designator F?  (value not drawn)
Value: *
footprint MINISCMC020F-2
pins: 1, 2
text: t(I)

## MOC3063 SMD
designator OP?  (value not drawn)
Value: *
footprint SMT-6
pins: 1, 2, 3 hidden, 4, 5 hidden, 6

## MPX-X2
designator CX?  value 0.15u  (hidden comment: MPX-X2)
footprint CAP_MPX:W26.5T6.0H15
pins: 1, 2

## MSW-22
designator BSW?  (value not drawn)
Value: *
footprint MSW-22
pins: 1, 2, 3

## ORG
designator REP?  (value not drawn)
Value: *
footprint PER
pins: 1 hidden

## ORG_1
designator REP?, comment ORG  (value not drawn)
Value: *
footprint PER
pins: 1 hidden

## P4SMAJ5.0
designator TVS?
Value: *
footprint SMA
pins: 1, 2

## P4SMAJ5.0_1
designator TVS?, comment P4SMAJ5.0
Value: *
footprint SMA
pins: 1, 2

## P6KE62CA
designator P6KE?  value 180V  (hidden comment: P6KE62CA)
footprint P6KE62CA
pins: 1, 2

## PBS-05
designator P?
Value: *
footprint PLS-05
pins: 1, 2, 3, 4, 5

## PLS-07
designator P?
Value: *
footprint PLS-07
pins: 1, 2, 3, 4, 5, 6, 7

## PS2701-1
designator OP?
Value: *
footprint SOP4
pins: 1 A, 2 K, 3 E, 4 C

## PS2701-1_1
designator OP?, comment PS2701-1
footprint SOP4
pins: 1 A, 2 K, 3 E, 4 C

## PS2701-1_2
designator OP?, comment PS2701-1
Value: *
footprint SOP4
pins: 1 A, 2 K, 3 E, 4 C

## R1206
designator MR?  value 27  (hidden comment: R1206)
footprint R1206
pins: 1, 2

## RES_400
designator R?  value 10K  (hidden comment: RES_400)
footprint RES_400
pins: 1 A, 2 B

## RES_600
designator R?  value 180 0.5W  (hidden comment: RES_600)
footprint RES_600
pins: 1 A, 2 B

## RES_600_1
designator R?, comment value 10 0.25W  (hidden comment: RES_600)
footprint RES_600
pins: 1 A, 2 B

## RES_SMD
designator R?  value 1K  (hidden comment: RES_SMD)
footprint R0805
pins: 1, 2

## RES_SMD_0402
designator R?  value 100K  (hidden comment: RES_SMD_0402)
footprint R0402
footprint R-0402 (Chip Resistor, 2-Leads, Body 1,05x0,54mm, IPC Medium Density)
pins: 1, 2

## RES_SMD_0402_1
designator R?, comment value 1K  (hidden comment: RES_SMD_0402)
footprint R0402
footprint R-0402 (Chip Resistor, 2-Leads, Body 1,05x0,54mm, IPC Medium Density)
pins: 1, 2

## RES_SMD_0402_2
designator R?, comment value 100  (hidden comment: RES_SMD_0402)
footprint R0402
footprint R-0402 (Chip Resistor, 2-Leads, Body 1,05x0,54mm, IPC Medium Density)
pins: 1, 2

## RES_SMD_0402_3
designator R?, comment value 200K  (hidden comment: RES_SMD_0402)
footprint R0402
footprint R-0402 (Chip Resistor, 2-Leads, Body 1,05x0,54mm, IPC Medium Density)
pins: 1, 2

## RES_SMD_0402_4
designator R?, comment value 47K  (hidden comment: RES_SMD_0402)
footprint R0402
footprint R-0402 (Chip Resistor, 2-Leads, Body 1,05x0,54mm, IPC Medium Density)
pins: 1, 2

## RES_SMD_0402_5
designator R?, comment value 1.5K  (hidden comment: RES_SMD_0402)
footprint R0402
footprint R-0402 (Chip Resistor, 2-Leads, Body 1,05x0,54mm, IPC Medium Density)
pins: 1, 2

## RES_SMD_0402_6
designator R?, comment value 820K  (hidden comment: RES_SMD_0402)
footprint R0402
footprint R-0402 (Chip Resistor, 2-Leads, Body 1,05x0,54mm, IPC Medium Density)
pins: 1, 2

## RES_SMD_0603
designator LC?  (value not drawn)
Value: X
footprint R0603
footprint R-0603 (Chip Resistor, 2-Leads, Body 1,60x0,82mm, IPC Medium Density)
pins: 1, 2

## RES_SMD_0603_1
designator RL?, comment value 0  (hidden comment: RES_SMD_0603)
footprint R0603
footprint R-0603 (Chip Resistor, 2-Leads, Body 1,60x0,82mm, IPC Medium Density)
pins: 1, 2

## RES_SMD_0603_2
designator R?, comment value 2K  1%  (hidden comment: RES_SMD_0603)
footprint R0603
pins: 1, 2

## RES_SMD_0603_3
designator R?, comment value 0  (hidden comment: RES_SMD_0603)
footprint R0603
pins: 1, 2

## RES_SMD_0603_4
designator RL?, comment value 0  (hidden comment: RES_SMD_0603)
footprint R0603
pins: 1, 2

## RES_SMD_0603_5
designator RL?, comment value 0  (hidden comment: RES_SMD_0603)
footprint R0603
pins: 1, 2

## RES_SMD_0603_6
designator R?, comment value 820K  (hidden comment: RES_SMD_0603)
footprint R0603
pins: 1, 2

## RES_SMD_0805
designator R?  value 5.1K  (hidden comment: RES_SMD_0805)
footprint R0805
pins: 1, 2

## RES_SMD_0805_1
designator RC?, comment value 0  (hidden comment: RES_SMD_0805)
footprint R0805
pins: 1, 2

## RES_SMD_0805_2
designator R?, comment value 10  (hidden comment: RES_SMD_0805)
footprint R0805
pins: 1, 2

## RES_SMD_0805_3
designator R?, comment value 180K 1%  (hidden comment: RES_SMD_0805)
footprint R0805
pins: 1, 2

## RES_SMD_0805_4
designator R?, comment value 10K  (hidden comment: RES_SMD_0805)
footprint R0805
pins: 1, 2

## RES_SMD_0805_5
designator R?, comment value 820K  (hidden comment: RES_SMD_0805)
footprint R0805
pins: 1, 2

## RES_SMD_1206
designator R?  value 1*  (hidden comment: RES_SMD_1206)
footprint R1206
pins: 1, 2

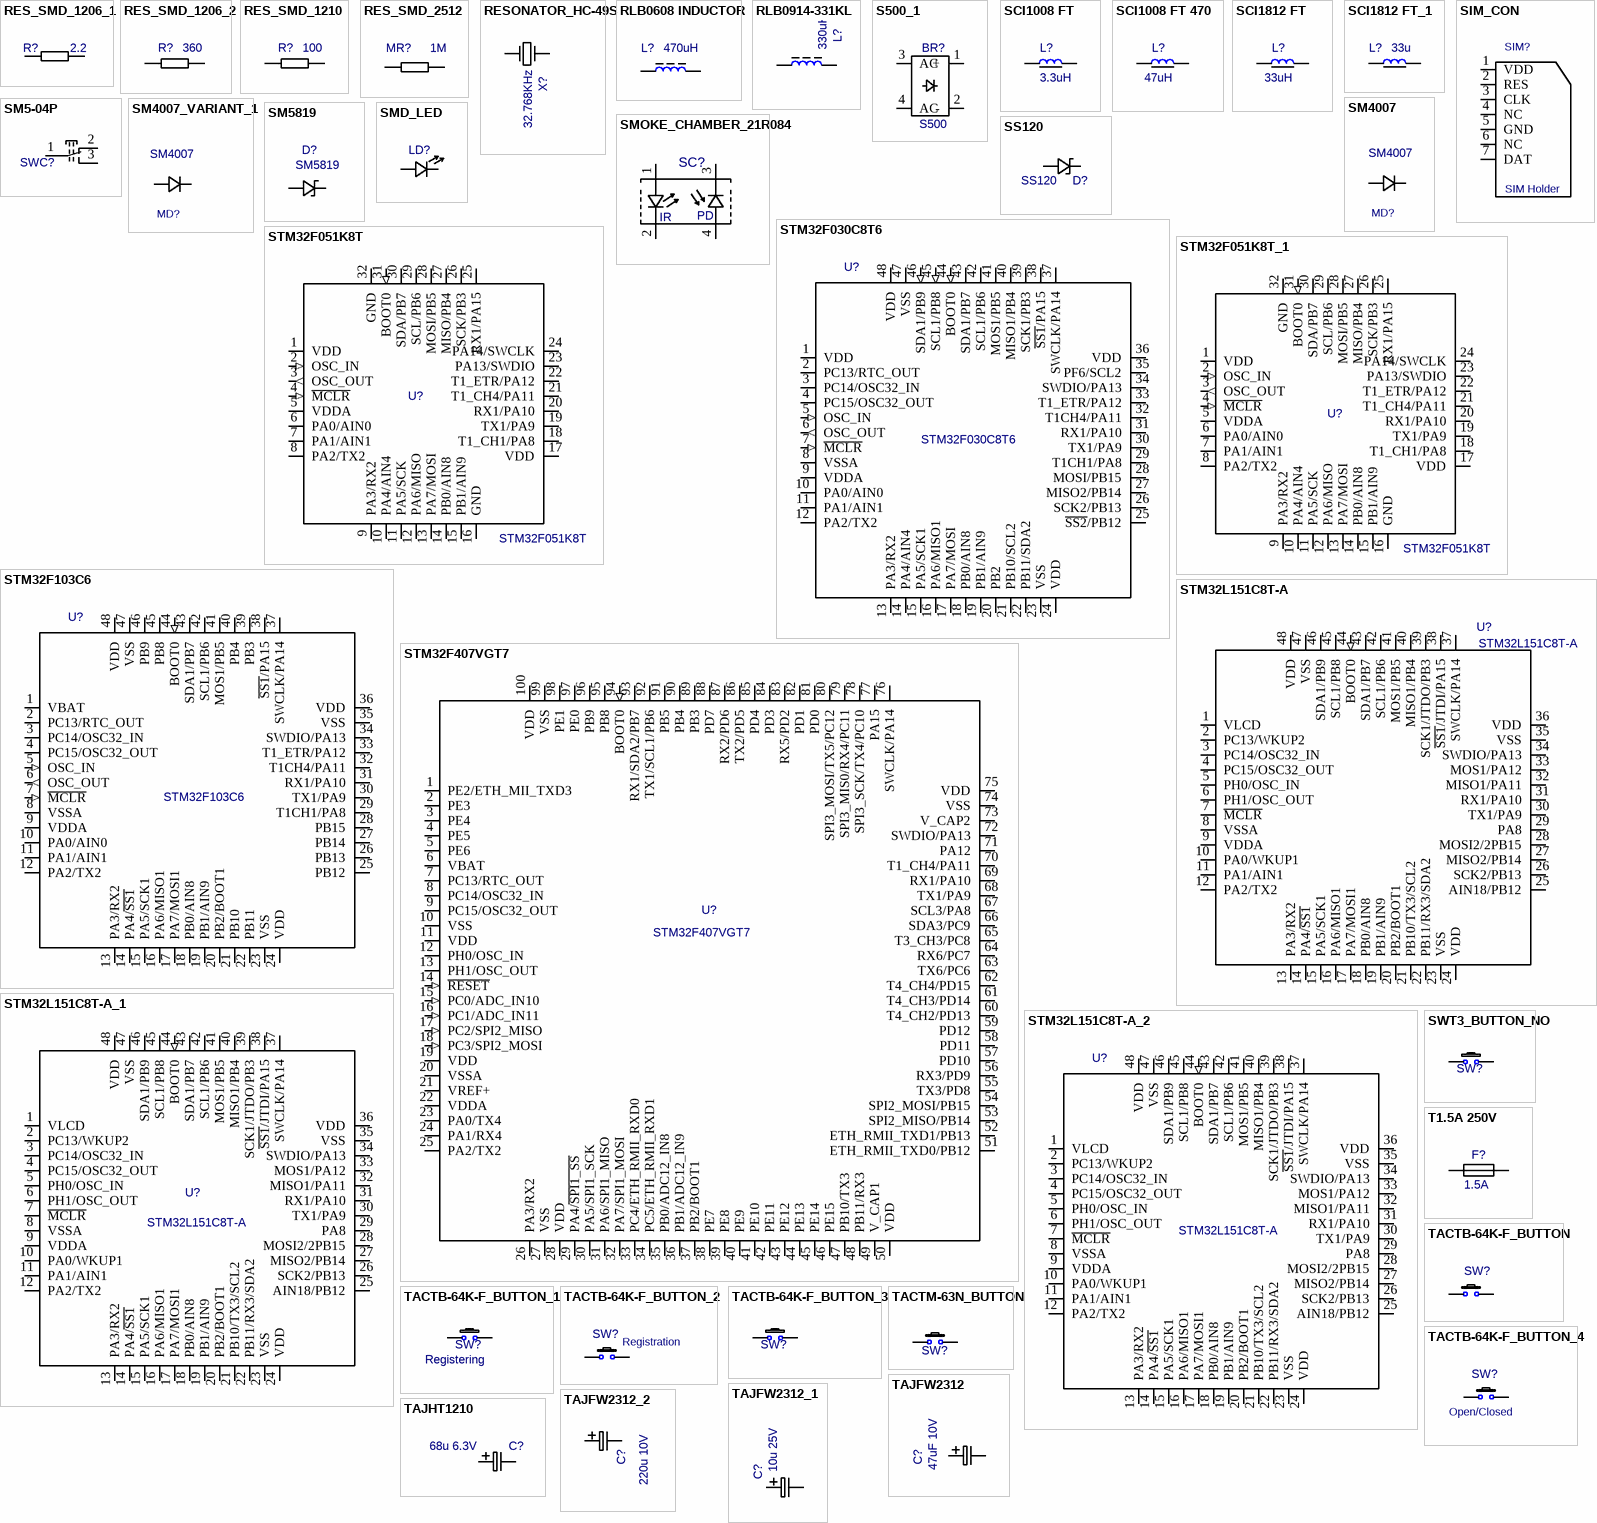
[diagram p6: symbols RES_SMD_1206_1 to TAJHT1210]

## RES_SMD_1206_1
designator R?, comment value 2.2  (hidden comment: RES_SMD_1206)
footprint R1206
pins: 1, 2

## RES_SMD_1206_2
designator R?, comment value 360  (hidden comment: RES_SMD_1206)
footprint R1206
pins: 1, 2

## RES_SMD_1210
designator R?  value 100  (hidden comment: RES_SMD_1210)
footprint R1210
pins: 1, 2

## RES_SMD_2512
designator MR?  value 1M  (hidden comment: RES_SMD_2512)
footprint R2512
pins: 1, 2

## RESONATOR_HC-49S
designator X?  value 32.768KHz  (hidden comment: RESONATOR_HC-49S)
Crystal
footprint RESONATOR_HC49S
pins: 1, 2

## RLB0608 INDUCTOR
designator L?  value 470uH  (hidden comment: RLB0608 INDUCTOR)
footprint RLB0608_INDUCTOR
pins: 1, 2

## RLB0914-331KL
designator L?  value 330uH  (hidden comment: RLB0914-331KL)
footprint RLB0914
pins: 1, 2

## S500_1
designator BR?, comment S500
Value: *
footprint TO-269AA
pins: 1 +, 2 -, 3 AC, 4 AC

## SCI1008 FT
designator L?  value 3.3uH  (hidden comment: SCI1008 FT)
footprint SCI1008
pins: 1, 2

## SCI1008 FT 470
designator L?  value 47uH  (hidden comment: SCI1008 FT 470)
SMD COIL
footprint SCI1008
pins: 1, 2

## SCI1812 FT
designator L?  value 33uH  (hidden comment: SCI1812 FT)
footprint SCI1812
pins: 1, 2

## SCI1812 FT_1
designator L?, comment value 33u  (hidden comment: SCI1812 FT)
footprint SCI1812
pins: 1, 2

## SIM_CON
designator SIM?  (value not drawn)
Value: *
footprint SIM_CONN
pins: 1 VDD, 2 RES, 3 CLK, 4 NC, 5 GND, 6 NC, 7 DAT, MP2 hidden, MP3 hidden, MP4 hidden, MP5 hidden, MP6 hidden
text: SIM Holder

## SM5-04P
designator SWC?  (value not drawn)
Value: *
footprint SM5-04P_SW
pins: 1, 2, 3

## SM4007
designator MD?
footprint DO_213AB
pins: 1, 2

## SM4007_VARIANT_1
designator MD?, comment SM4007
SM4007_VARIANT_1
footprint DO_213AB
pins: 1, 2

## SM5819
designator D?
Value: *
footprint DO-213AB
pins: 1, 2

## SMD_LED
designator LD?  (value not drawn)
Value: *
footprint LED_SMD
pins: 1 A, 2 K

## SMOKE_CHAMBER_21R084
designator SC?  (value not drawn)
Value: *
footprint SMOKE CHAMBER_21R084
pins: 1, 2, 3, 4, 5 hidden
text: IR; PD

## SS120
designator D?
Value: *
footprint SOD-123LF
pins: 1, 2

## STM32F030C8T6
designator U?
Value: *
footprint LQFP48
pins: 1 VDD (power), 2 PC13/RTC_OUT, 3 PC14/OSC32_IN, 4 PC15/OSC32_OUT, 5 OSC_IN (in), 6 OSC_OUT (out), 7 ~{MCLR} (in), 8 VSSA (power), 9 VDDA (power), 10 PA0/AIN0 (io), 11 PA1/AIN1 (io), 12 PA2/TX2 (io), 13 PA3/RX2 (io), 14 PA4/AIN4 (io), 15 PA5/SCK1 (io), 16 PA6/MISO1 (io), 17 PA7/MOSI (io), 18 PB0/AIN8 (io), 19 PB1/AIN9 (io), 20 PB2 (io), 21 PB10/SCL2 (io), 22 PB11/SDA2 (io), 23 VSS (power), 24 VDD (power), 25 ~{SS2}/PB12 (io), 26 SCK2/PB13 (io), 27 MISO2/PB14 (io), 28 MOSI/PB15 (io), 29 T1CH1/PA8 (io), 30 TX1/PA9 (io), 31 RX1/PA10 (io), 32 T1CH4/PA11 (io), 33 T1_ETR/PA12 (io), 34 SWDIO/PA13 (io), 35 PF6/SCL2 (io), 36 VDD (power), 37 SWCLK/PA14 (io), 38 ~{SS1}/PA15 (io), 39 SCK1/PB3 (io), 40 MISO1/PB4 (io), 41 MOS1/PB5 (io), 42 SCL1/PB6 (io), 43 SDA1/PB7 (io), 44 BOOT0 (in), 45 SCL1/PB8 (in), 46 SDA1/PB9 (in), 47 VSS (power), 48 VDD (power)

## STM32F051K8T
designator U?
Value: *
footprint LQFP32
pins: 1 VDD (power), 2 OSC_IN (in), 3 OSC_OUT (out), 4 ~{MCLR} (in), 5 VDDA (power), 6 PA0/AIN0 (hiz), 7 PA1/AIN1 (hiz), 8 PA2/TX2 (hiz), 9 PA3/RX2 (hiz), 10 PA4/AIN4 (hiz), 11 PA5/SCK (hiz), 12 PA6/MISO (hiz), 13 PA7/MOSI (hiz), 14 PB0/AIN8 (hiz), 15 PB1/AIN9 (hiz), 16 GND (power), 17 VDD (power), 18 T1_CH1/PA8 (hiz), 19 TX1/PA9 (hiz), 20 RX1/PA10 (hiz), 21 T1_CH4/PA11 (hiz), 22 T1_ETR/PA12 (hiz), 23 PA13/SWDIO (io), 24 PA14/SWCLK (io), 25 RX1/PA15 (hiz), 26 SCK/PB3 (hiz), 27 MISO/PB4 (hiz), 28 MOSI/PB5 (hiz), 29 SCL/PB6 (hiz), 30 SDA/PB7 (hiz), 31 BOOT0 (in), 32 GND (power)

## STM32F051K8T_1
designator U?, comment STM32F051K8T
Value: *
footprint LQFP32
pins: 1 VDD (power), 2 OSC_IN (in), 3 OSC_OUT (out), 4 ~{MCLR} (in), 5 VDDA (power), 6 PA0/AIN0 (hiz), 7 PA1/AIN1 (hiz), 8 PA2/TX2 (hiz), 9 PA3/RX2 (hiz), 10 PA4/AIN4 (hiz), 11 PA5/SCK (hiz), 12 PA6/MISO (hiz), 13 PA7/MOSI (hiz), 14 PB0/AIN8 (hiz), 15 PB1/AIN9 (hiz), 16 GND (power), 17 VDD (power), 18 T1_CH1/PA8 (hiz), 19 TX1/PA9 (hiz), 20 RX1/PA10 (hiz), 21 T1_CH4/PA11 (hiz), 22 T1_ETR/PA12 (hiz), 23 PA13/SWDIO (io), 24 PA14/SWCLK (io), 25 RX1/PA15 (hiz), 26 SCK/PB3 (hiz), 27 MISO/PB4 (hiz), 28 MOSI/PB5 (hiz), 29 SCL/PB6 (hiz), 30 SDA/PB7 (hiz), 31 BOOT0 (in), 32 GND (power)

## STM32F103C6
designator U?
Value: *
footprint LQFP48
pins: 1 VBAT, 2 PC13/RTC_OUT, 3 PC14/OSC32_IN, 4 PC15/OSC32_OUT, 5 OSC_IN (in), 6 OSC_OUT (out), 7 ~{MCLR} (in), 8 VSSA (power), 9 VDDA (power), 10 PA0/AIN0 (io), 11 PA1/AIN1 (io), 12 PA2/TX2 (io), 13 PA3/RX2 (io), 14 PA4/~{SS1} (io), 15 PA5/SCK1 (io), 16 PA6/MISO1 (io), 17 PA7/MOSI1 (io), 18 PB0/AIN8 (io), 19 PB1/AIN9 (io), 20 PB2/BOOT1 (io), 21 PB10 (io), 22 PB11 (io), 23 VSS (power), 24 VDD (power), 25 PB12 (io), 26 PB13 (io), 27 PB14 (io), 28 PB15 (io), 29 T1CH1/PA8 (io), 30 TX1/PA9 (io), 31 RX1/PA10 (io), 32 T1CH4/PA11 (io), 33 T1_ETR/PA12 (io), 34 SWDIO/PA13 (io), 35 VSS (power), 36 VDD (power), 37 SWCLK/PA14 (io), 38 ~{SS1}/PA15 (io), 39 PB3 (io), 40 PB4 (io), 41 MOS1/PB5 (io), 42 SCL1/PB6 (io), 43 SDA1/PB7 (io), 44 BOOT0 (in), 45 PB8 (io), 46 PB9 (io), 47 VSS (power), 48 VDD (power)

## STM32F407VGT7
designator U?
Value: *
footprint LQFP100
pins: 1 PE2/ETH_MII_TXD3 (io), 2 PE3 (io), 3 PE4 (io), 4 PE5 (io), 5 PE6 (io), 6 VBAT, 7 PC13/RTC_OUT, 8 PC14/OSC32_IN, 9 PC15/OSC32_OUT, 10 VSS (power), 11 VDD (power), 12 PH0/OSC_IN, 13 PH1/OSC_OUT, 14 ~{RESET} (in), 15 PC0/ADC_IN10 (in), 16 PC1/ADC_IN11 (in), 17 PC2/SPI2_MISO (in), 18 PC3/SPI2_MOSI (in), 19 VDD (power), 20 VSSA, 21 VREF+, 22 VDDA (power), 23 PA0/TX4 (io), 24 PA1/RX4 (io), 25 PA2/TX2 (io), 26 PA3/RX2 (io), 27 VSS (power), 28 VDD (power), 29 PA4/~{SPI1_SS} (io), 30 PA5/SPI1_SCK (io), 31 PA6/SPI1_MISO (io), 32 PA7/SPI1_MOSI (io), 33 PC4/ETH_RMII_RXD0 (io), 34 PC5/ETH_RMII_RXD1 (io), 35 PB0/ADC12_IN8 (io), 36 PB1/ADC12_IN9 (io), 37 PB2/BOOT1 (io), 38 PE7 (io), 39 PE8 (io), 40 PE9 (io), 41 PE10 (io), 42 PE11 (io), 43 PE12 (io), 44 PE13 (io), 45 PE14 (io), 46 PE15 (io), 47 PB10/TX3 (io), 48 PB11/RX3 (io), 49 V_CAP1, 50 VDD (power), 51 ETH_RMII_TXD0/PB12 (io), 52 ETH_RMII_TXD1/PB13 (io), 53 SPI2_MISO/PB14 (io), 54 SPI2_MOSI/PB15 (io), 55 TX3/PD8 (io), 56 RX3/PD9 (io), 57 PD10 (io), 58 PD11 (io), 59 PD12 (io), 60 T4_CH2/PD13 (io), 61 T4_CH3/PD14 (io), 62 T4_CH4/PD15 (io), 63 TX6/PC6 (io), 64 RX6/PC7 (io), 65 T3_CH3/PC8 (io), 66 SDA3/PC9 (io), 67 SCL3/PA8 (io), 68 TX1/PA9 (io), 69 RX1/PA10 (io), 70 T1_CH4/PA11 (io), 71 PA12 (io), 72 SWDIO/PA13 (io), 73 V_CAP2 (io), 74 VSS (power), 75 VDD (power), 76 SWCLK/PA14 (io), 77 PA15 (io), 78 SPI3_SCK/TX4/PC10 (io), 79 SPI3_MIS0/RX4/PC11 (io), 80 SPI3_MOSI/TX5/PC12 (io), 81 PD0 (io), 82 PD1 (io), 83 RX5/PD2 (io), 84 PD3 (io), 85 PD4 (io), 86 TX2/PD5 (io), 87 RX2/PD6 (io), 88 PD7 (io), 89 PB3 (io), 90 PB4 (io), 91 PB5 (io), 92 TX1/SCL1/PB6 (io), 93 RX1/SDA2/PB7 (io), 94 BOOT0 (in), 95 PB8 (io), 96 PB9 (io), 97 PE0 (io), 98 PE1 (io), 99 VSS (power), 100 VDD (power)

## STM32L151C8T-A
designator U?
Value: *
footprint LQFP48 7X7
footprint LQFP-48 (TSQFP, 48-Leads, Body 7,00x7,00mm, Pitch 0,50mm, IPC Medium Density)
pins: 1 VLCD (power), 2 PC13/WKUP2 (io), 3 PC14/OSC32_IN (io), 4 PC15/OSC32_OUT (io), 5 PH0/OSC_IN (io), 6 PH1/OSC_OUT (io), 7 ~{MCLR} (io), 8 VSSA (power), 9 VDDA (power), 10 PA0/WKUP1 (io), 11 PA1/AIN1 (io), 12 PA2/TX2 (io), 13 PA3/RX2 (io), 14 PA4/~{SS1} (io), 15 PA5/SCK1 (io), 16 PA6/MISO1 (io), 17 PA7/MOSI1 (io), 18 PB0/AIN8 (io), 19 PB1/AIN9 (io), 20 PB2/BOOT1 (io), 21 PB10/TX3/SCL2 (io), 22 PB11/RX3/SDA2 (io), 23 VSS (power), 24 VDD (power), 25 AIN18/PB12 (io), 26 SCK2/PB13 (io), 27 MISO2/PB14 (io), 28 MOSI2/2PB15 (io), 29 PA8 (io), 30 TX1/PA9 (io), 31 RX1/PA10 (io), 32 MISO1/PA11 (io), 33 MOS1/PA12 (io), 34 SWDIO/PA13 (io), 35 VSS (power), 36 VDD (power), 37 SWCLK/PA14 (io), 38 ~{SS1}/JTDI/PA15 (io), 39 SCK1/JTDO/PB3 (io), 40 MISO1/PB4 (io), 41 MOS1/PB5 (io), 42 SCL1/PB6 (io), 43 SDA1/PB7 (io), 44 BOOT0 (in), 45 SCL1/PB8 (io), 46 SDA1/PB9 (io), 47 VSS (power), 48 VDD (power)

## STM32L151C8T-A_1
designator U?, comment STM32L151C8T-A
Value: *
footprint LQFP48 7X7
pins: 1 VLCD (power), 2 PC13/WKUP2 (io), 3 PC14/OSC32_IN (io), 4 PC15/OSC32_OUT (io), 5 PH0/OSC_IN (io), 6 PH1/OSC_OUT (io), 7 ~{MCLR} (io), 8 VSSA (power), 9 VDDA (power), 10 PA0/WKUP1 (io), 11 PA1/AIN1 (io), 12 PA2/TX2 (io), 13 PA3/RX2 (io), 14 PA4/~{SS1} (io), 15 PA5/SCK1 (io), 16 PA6/MISO1 (io), 17 PA7/MOSI1 (io), 18 PB0/AIN8 (io), 19 PB1/AIN9 (io), 20 PB2/BOOT1 (io), 21 PB10/TX3/SCL2 (io), 22 PB11/RX3/SDA2 (io), 23 VSS (power), 24 VDD (power), 25 AIN18/PB12 (io), 26 SCK2/PB13 (io), 27 MISO2/PB14 (io), 28 MOSI2/2PB15 (io), 29 PA8 (io), 30 TX1/PA9 (io), 31 RX1/PA10 (io), 32 MISO1/PA11 (io), 33 MOS1/PA12 (io), 34 SWDIO/PA13 (io), 35 VSS (power), 36 VDD (power), 37 SWCLK/PA14 (io), 38 ~{SS1}/JTDI/PA15 (io), 39 SCK1/JTDO/PB3 (io), 40 MISO1/PB4 (io), 41 MOS1/PB5 (io), 42 SCL1/PB6 (io), 43 SDA1/PB7 (io), 44 BOOT0 (in), 45 SCL1/PB8 (io), 46 SDA1/PB9 (io), 47 VSS (power), 48 VDD (power)

## STM32L151C8T-A_2
designator U?, comment STM32L151C8T-A
Value: *
footprint LQFP48 7X7
pins: 1 VLCD (power), 2 PC13/WKUP2 (io), 3 PC14/OSC32_IN (io), 4 PC15/OSC32_OUT (io), 5 PH0/OSC_IN (io), 6 PH1/OSC_OUT (io), 7 ~{MCLR} (io), 8 VSSA (power), 9 VDDA (power), 10 PA0/WKUP1 (io), 11 PA1/AIN1 (io), 12 PA2/TX2 (io), 13 PA3/RX2 (io), 14 PA4/~{SS1} (io), 15 PA5/SCK1 (io), 16 PA6/MISO1 (io), 17 PA7/MOSI1 (io), 18 PB0/AIN8 (io), 19 PB1/AIN9 (io), 20 PB2/BOOT1 (io), 21 PB10/TX3/SCL2 (io), 22 PB11/RX3/SDA2 (io), 23 VSS (power), 24 VDD (power), 25 AIN18/PB12 (io), 26 SCK2/PB13 (io), 27 MISO2/PB14 (io), 28 MOSI2/2PB15 (io), 29 PA8 (io), 30 TX1/PA9 (io), 31 RX1/PA10 (io), 32 MISO1/PA11 (io), 33 MOS1/PA12 (io), 34 SWDIO/PA13 (io), 35 VSS (power), 36 VDD (power), 37 SWCLK/PA14 (io), 38 ~{SS1}/JTDI/PA15 (io), 39 SCK1/JTDO/PB3 (io), 40 MISO1/PB4 (io), 41 MOS1/PB5 (io), 42 SCL1/PB6 (io), 43 SDA1/PB7 (io), 44 BOOT0 (in), 45 SCL1/PB8 (io), 46 SDA1/PB9 (io), 47 VSS (power), 48 VDD (power)

## SWT3_BUTTON_NO
designator SW?  (value not drawn)
{Description}; Value: *
footprint SWT-3 BUTTON
pins: 1, 2, 3 hidden, 4 hidden

## T1.5A 250V
designator F?  value 1.5A  (hidden comment: T1.5A 250V)
footprint FUSE_3.6X10
pins: 1, 2

## TACTB-64K-F_BUTTON
designator SW?  (value not drawn)
{Description}; Value: *
footprint TACTB-64K-F_BUTTON
footprint TACTB-64K-F_BUTTON-3D
pins: 1, 2, 3 hidden, 4 hidden

## TACTB-64K-F_BUTTON_1
designator SW?, comment value Registering  (hidden comment: TACTB-64K-F_BUTTON)
{Description}
footprint TACTB-64K-F_BUTTON
pins: 1, 2, 3 hidden, 4 hidden

## TACTB-64K-F_BUTTON_2
designator SW?, comment value Registration  (hidden comment: TACTB-64K-F_BUTTON)
{Description}
footprint TACTB-64K-F_BUTTON
pins: 1, 2, 3 hidden, 4 hidden

## TACTB-64K-F_BUTTON_3
designator SW?, comment TACTB-64K-F_BUTTON  (value not drawn)
{Description}; Value: *
footprint TACTB-64K-F_BUTTON
pins: 1, 2, 3 hidden, 4 hidden

## TACTB-64K-F_BUTTON_4
designator SW?, comment value Open/Closed  (hidden comment: TACTB-64K-F_BUTTON)
{Description}
footprint TACTB-64K-F_BUTTON
pins: 1, 2, 3 hidden, 4 hidden

## TACTM-63N_BUTTON
designator SW?  (value not drawn)
{Description}; Value: *
footprint BUTTON_TACT3M-63N
pins: 1, 2, 3 hidden, 4 hidden

## TAJFW2312
designator C?  value 47uF 10V  (hidden comment: TAJFW2312)
footprint TAJFW2312
pins: 1, 2

## TAJFW2312_1
designator C?, comment value 10u 25V  (hidden comment: TAJFW2312)
footprint TAJFW2312
pins: 1, 2

## TAJFW2312_2
designator C?, comment value 220u 10V  (hidden comment: TAJFW2312)
footprint TAJFW2312
pins: 1, 2

## TAJHT1210
designator C?  value 68u 6.3V  (hidden comment: TAJHT1210)
footprint TAJHT1210
footprint C-TANTAL-B (Capacitor, Polarized, Molded Body; 3.45 mm L X 2.80 mm W X 2.10 mm H body)
pins: 1, 2

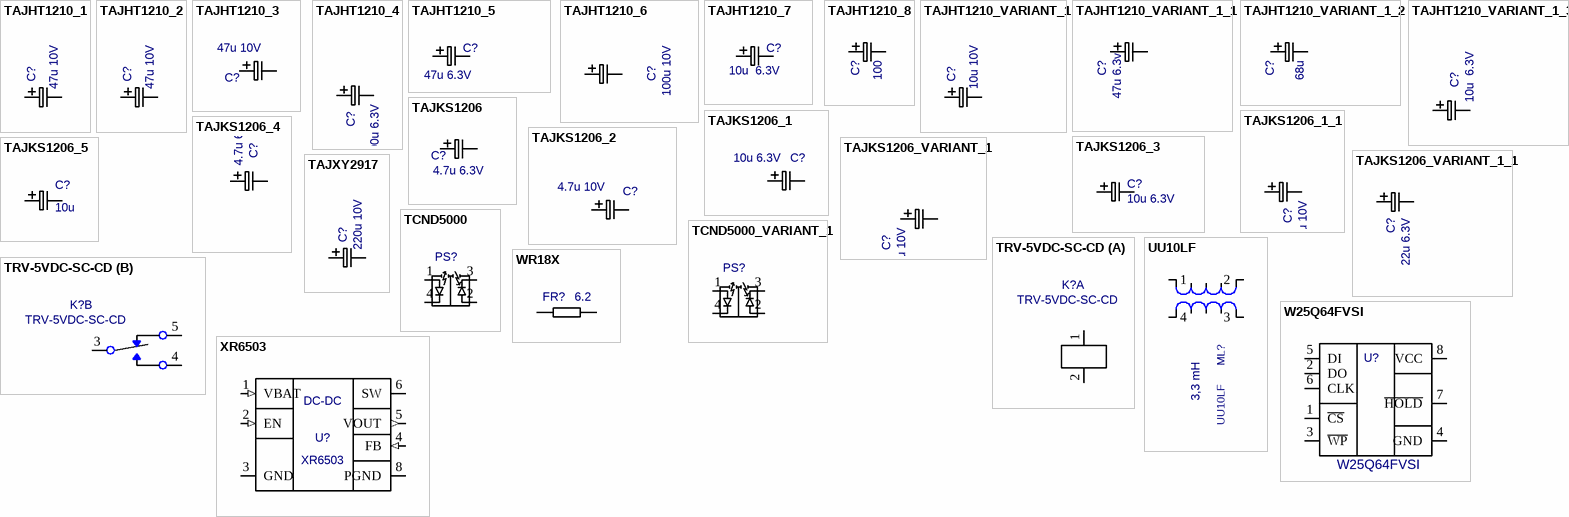
[diagram p7: symbols TAJHT1210_1 to XR6503]

## TAJHT1210_1
designator C?, comment value 47u 10V  (hidden comment: TAJHT1210)
Tantalum Capasitor 1210
footprint TAJHT1210
pins: 1, 2

## TAJHT1210_2
designator C?, comment value 47u 10V  (hidden comment: TAJHT1210)
Tantalum Capasitor  1210
footprint TAJHT1210
pins: 1, 2

## TAJHT1210_3
designator C?, comment value 47u 10V  (hidden comment: TAJHT1210)
footprint TAJHT1210
pins: 1, 2

## TAJHT1210_4
designator C?, comment value 100u 6.3V  (hidden comment: TAJHT1210)
footprint TAJHT1210
pins: 1, 2

## TAJHT1210_5
designator C?, comment value 47u 6.3V  (hidden comment: TAJHT1210)
footprint TAJHT1210
pins: 1, 2

## TAJHT1210_6
designator C?, comment value 100u 10V  (hidden comment: TAJHT1210)
footprint TAJHT1210
pins: 1, 2

## TAJHT1210_7
designator C?, comment value 10u  6.3V  (hidden comment: TAJHT1210)
footprint TAJHT1210
pins: 1, 2

## TAJHT1210_8
designator C?, comment value 100  (hidden comment: TAJHT1210)
footprint TAJHT1210
pins: 1, 2

## TAJHT1210_VARIANT_1
designator C?, comment value 10u 10V  (hidden comment: TAJHT1210)
TAJHT1210_VARIANT_1
footprint TAJHT1210
pins: 1, 2

## TAJHT1210_VARIANT_1_1
designator C?, comment value 47u 6.3v  (hidden comment: TAJHT1210)
TAJHT1210_VARIANT_1
footprint TAJHT1210
pins: 1, 2

## TAJHT1210_VARIANT_1_2
designator C?, comment value 68u  (hidden comment: TAJHT1210)
TAJHT1210_VARIANT_1
footprint TAJHT1210
pins: 1, 2

## TAJHT1210_VARIANT_1_3
designator C?, comment value 10u  6.3V  (hidden comment: TAJHT1210)
TAJHT1210_VARIANT_1
footprint TAJHT1210
pins: 1, 2

## TAJKS1206
designator C?  value 4.7u 6.3V  (hidden comment: TAJKS1206)
footprint TAJKS1206
footprint C-TANTAL-A (Capacitor, Polarized, Molded Body; 3.20 mm L X 1.20 mm W X 1.80 mm H body)
pins: 1, 2

## TAJKS1206_1
designator C?, comment value 10u 6.3V  (hidden comment: TAJKS1206)
footprint TAJKS1206
footprint C-TANTAL-A (Capacitor, Polarized, Molded Body; 3.20 mm L X 1.20 mm W X 1.80 mm H body)
pins: 1, 2

## TAJKS1206_1_1
designator C?, comment value 22u 10V  (hidden comment: TAJKS1206)
Tantalum Capasitor
footprint TAJKS1206
pins: 1, 2

## TAJKS1206_2
designator C?, comment value 4.7u 10V  (hidden comment: TAJKS1206)
Tantalum capasitor 1206
footprint TAJKS1206
pins: 1, 2

## TAJKS1206_3
designator C?, comment value 10u 6.3V  (hidden comment: TAJKS1206)
footprint TAJKS1206
pins: 1, 2

## TAJKS1206_4
designator C?, comment value 4.7u 6.3V  (hidden comment: TAJKS1206)
footprint TAJKS1206
pins: 1, 2

## TAJKS1206_5
designator C?, comment value 10u  (hidden comment: TAJKS1206)
footprint TAJKS1206
pins: 1, 2

## TAJKS1206_VARIANT_1
designator C?, comment value 22u 10V  (hidden comment: TAJKS1206)
Tantalum Capasitor
footprint TAJKS1206
pins: 1, 2

## TAJKS1206_VARIANT_1_1
designator C?, comment value 22u 6.3V  (hidden comment: TAJKS1206)
TAJKS1206_VARIANT_1
footprint TAJKS1206
pins: 1, 2

## TAJXY2917
designator C?  value 220u 10V  (hidden comment: TAJXY2917)
Tantalum Capasitor 10V 2917
footprint TAJXY2917
pins: 1, 2

## TCND5000
designator PS?  (value not drawn)
Value: *
footprint TCND5000_PAT
pins: 1 AE, 2 AD, 3 CD, 4 CE

## TCND5000_VARIANT_1
designator PS?, comment TCND5000  (value not drawn)
TCND5000_VARIANT_1; Value: *
footprint TCND5000_PAT
pins: 1 AE, 2 AD, 3 CD, 4 CE

## TRV-5VDC-SC-CD
designator K?
Value: *
footprint TRV_1C-FORM_RELAY
part A pins: 1 L1, 2 L2
part B pins: 3 COM, 4 NO, 5 NC

## UU10LF
designator ML?  value 3,3 mH
footprint UU10LF
pins: 1, 2, 3, 4

## W25Q64FVSI
designator U?
Value: *
footprint SOIC8-208
pins: 1 ~{CS}, 2 DO, 3 ~{WP}, 4 GND, 5 DI, 6 CLK, 7 ~{HOLD}, 8 VCC

## WR18X
designator FR?  value 6.2  (hidden comment: WR18X)
Power chip resistors SMD 1W
footprint R1218
pins: 1, 2

## XR6503
designator U?
Sinchronous DC-DC Converter; Value: *
footprint SOP8-EPAD
pins: 1 VBAT (in), 2 EN (in), 3 GND (power), 4 FB (in), 5 VOUT (out), 6 SW (oc), 7 hidden, 8 PGND (power)
text: DC-DC